# EAGLE library part FT601Q (library ICs)
USB Bridge, USB to FIFO USB 3.0 FIFO Interface 76-QFN (9x9)
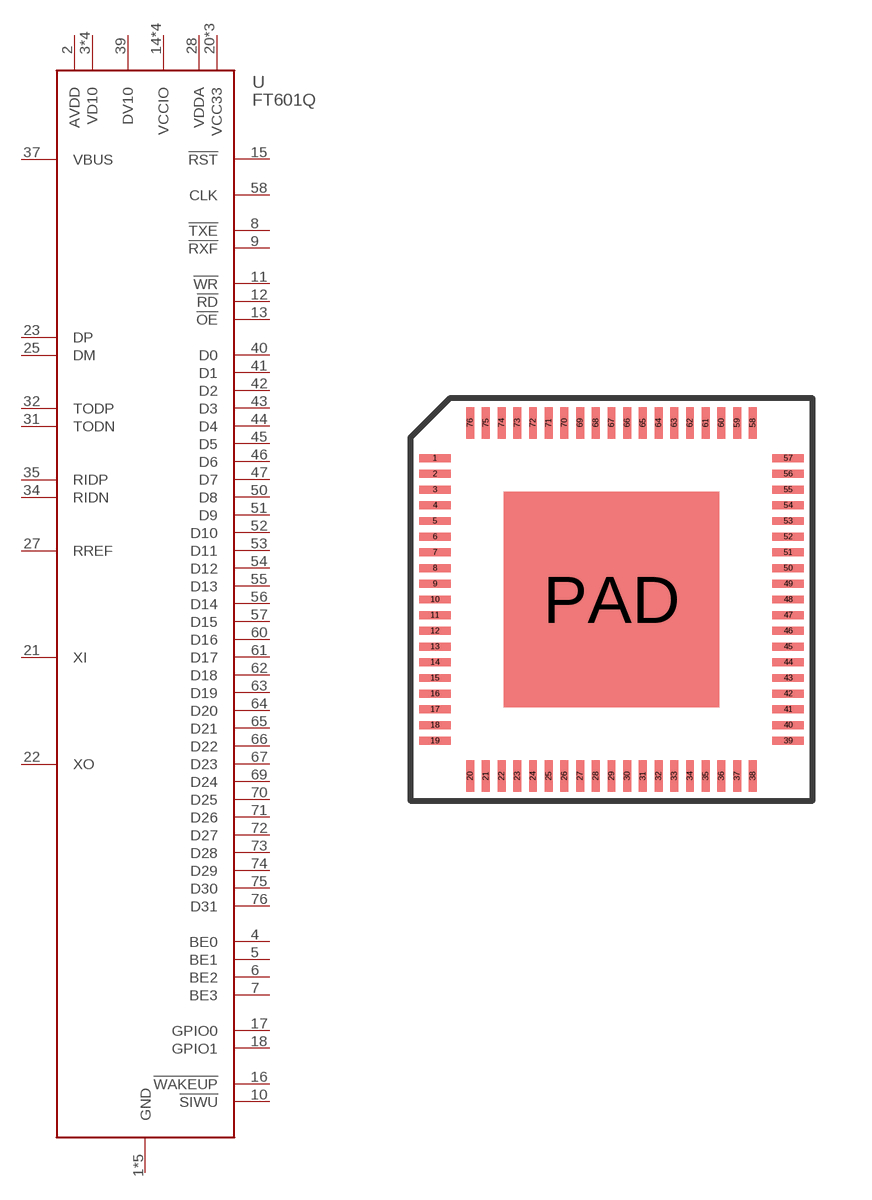
[diagram p299: symbol with the pads of QFN76; footprint QFN76]

Designator prefix U

## FT601Q (DIGIKEY: 768-1311-ND; HEIGHT: 2; PRICE_PER: 7.63; VALUE: FT601Q)  [QFN76]
1  GND
2  AVDD
3  VD10
4  BE0
5  BE1
6  BE2
7  BE3
8  !TXE
9  !RXF
10  !SIWU
11  !WR
12  !RD
13  !OE
14  VCCIO
15  !RST
16  !WAKEUP
17  GPIO0
18  GPIO1
20  VCC33
21  XI
22  XO
23  DP
24  VCC33
25  DM
26  GND
27  RREF
28  VDDA
29  GND
30  VD10
31  TODN
32  TODP
33  VD10
34  RIDN
35  RIDP
36  GND
37  VBUS
38  VCC33
39  DV10
40  D0
41  D1
42  D2
43  D3
44  D4
45  D5
46  D6
47  D7
48  VD10
49  VCCIO
50  D8
51  D9
52  D10
53  D11
54  D12
55  D13
56  D14
57  D15
58  CLK
59  VCCIO
60  D16
61  D17
62  D18
63  D19
64  D20
65  D21
66  D22
67  D23
68  VCCIO
69  D24
70  D25
71  D26
72  D27
73  D28
74  D29
75  D30
76  D31
PAD  GND

## Footprint QFN76 (pad centres in mm)
smd 0.8 x 0.2: 1 -4.5,3.6; 2 -4.5,3.2; 3 -4.5,2.8; 4 -4.5,2.4; 5 -4.5,2; 6 -4.5,1.6; 7 -4.5,1.2; 8 -4.5,0.8; 9 -4.5,0.4; 10 -4.5,0; 11 -4.5,-0.4; 12 -4.5,-0.8; 13 -4.5,-1.2; 14 -4.5,-1.6; 15 -4.5,-2; 16 -4.5,-2.4; 17 -4.5,-2.8; 18 -4.5,-3.2; 19 -4.5,-3.6; 39 4.5,-3.6; 40 4.5,-3.2; 41 4.5,-2.8; 42 4.5,-2.4; 43 4.5,-2; 44 4.5,-1.6; 45 4.5,-1.2; 46 4.5,-0.8; 47 4.5,-0.4; 48 4.5,0; 49 4.5,0.4; 50 4.5,0.8; 51 4.5,1.2; 52 4.5,1.6; 53 4.5,2; 54 4.5,2.4; 55 4.5,2.8; 56 4.5,3.2; 57 4.5,3.6
smd 0.2 x 0.8: 20 -3.6,-4.5; 21 -3.2,-4.5; 22 -2.8,-4.5; 23 -2.4,-4.5; 24 -2,-4.5; 25 -1.6,-4.5; 26 -1.2,-4.5; 27 -0.8,-4.5; 28 -0.4,-4.5; 29 0,-4.5; 30 0.4,-4.5; 31 0.8,-4.5; 32 1.2,-4.5; 33 1.6,-4.5; 34 2,-4.5; 35 2.4,-4.5; 36 2.8,-4.5; 37 3.2,-4.5; 38 3.6,-4.5; 58 3.6,4.5; 59 3.2,4.5; 60 2.8,4.5; 61 2.4,4.5; 62 2,4.5; 63 1.6,4.5; 64 1.2,4.5; 65 0.8,4.5; 66 0.4,4.5; 67 0,4.5; 68 -0.4,4.5; 69 -0.8,4.5; 70 -1.2,4.5; 71 -1.6,4.5; 72 -2,4.5; 73 -2.4,4.5; 74 -2.8,4.5; 75 -3.2,4.5; 76 -3.6,4.5
smd 5.5 x 5.5: PAD 0,0